# Altium footprint library LGA12_3X3X0.77.PcbLib: 1 footprints
Each footprint in its own frame and in the unit in brackets; x right, y up, seen from the top. Pads: shape width x height; smd on the part's side, far side on the other; paste and mask are expansions set on the pad; w line width, h text height; cw(c..) or ccw(c..) is an arc to the next point about the centre after c.
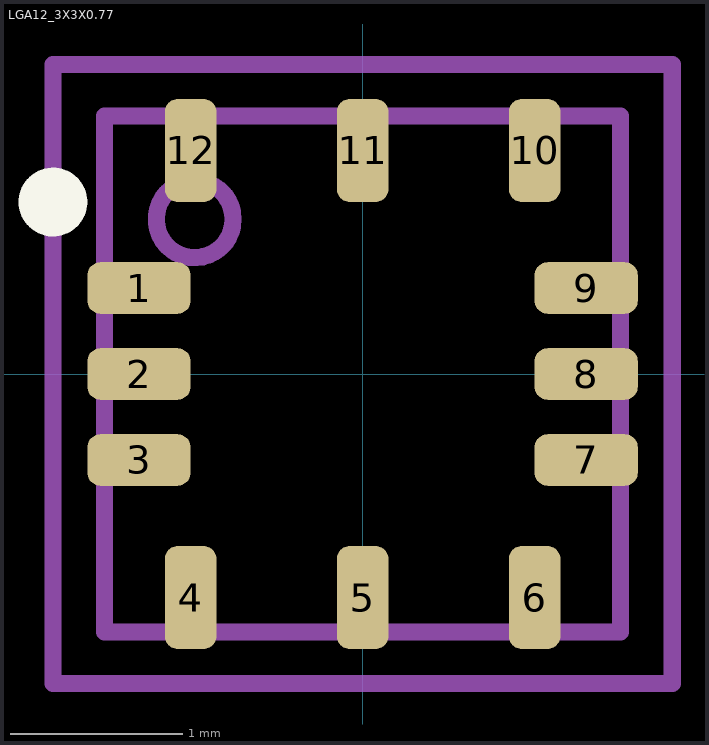
[diagram p0: the footprint, top view; thin cyan lines are the x and y axes]

## LGA12_3X3X0.77 [mm]
pads (12):
  rrect50% 0.6x0.3 smd mask+0.05: 1(-1.3,0.5) 2(-1.3,0) 3(-1.3,-0.5) 7(1.3,-0.5) 8(1.3,0) 9(1.3,0.5)
  rrect50% 0.3x0.6 smd mask+0.05: 4(-1,-1.3) 5(0,-1.3) 6(1,-1.3) 10(1,1.3) 11(0,1.3) 12(-1,1.3)
Top Overlay:
  circle w0.2: c-1.8,1 r0.1
Top Assembly:
  circle w0.1: c-0.976,0.9 r0.224
  lines w0.1: -1.5,-1.5 1.5,-1.5 1.5,1.5 -1.5,1.5 -1.5,-1.5
Top Courtyard:
  lines w0.1: -1.8,-1.8 1.8,-1.8 1.8,1.8 -1.8,1.8 -1.8,-1.8
3D body "ZMOD4410.STEP": height 0.78, standoff 0, extent -1.498,-1.501 1.501,1.499